# EAGLE library part LTC3626 (library SHC)
20V, 2.5A Synchronous Monolithic Step-Down Regulator with Current and Temperature Monitoring
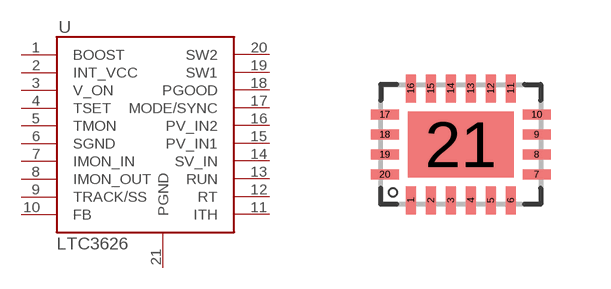
[diagram p47: symbol with the pads of LTC3626; footprint LTC3626]

Designator prefix -

## LTC3626  [LTC3626]
1  BOOST
2  INT_VCC
3  V_ON
4  TSET
5  TMON
6  SGND
7  IMON_IN
8  IMON_OUT
9  TRACK/SS
10  FB
11  ITH
12  RT
13  RUN
14  SV_IN
15  PV_IN1
16  PV_IN2
17  MODE/SYNC
18  PGOOD
19  SW1
20  SW2
21  PGND

## Footprint LTC3626 (pad centres in mm)
smd 0.25 x 0.7: 1 -1.25,-1.4; 2 -0.75,-1.4; 3 -0.25,-1.4; 4 0.25,-1.4; 5 0.75,-1.4; 6 1.25,-1.4; 11 1.25,1.4; 12 0.75,1.4; 13 0.25,1.4; 14 -0.25,1.4; 15 -0.75,1.4; 16 -1.25,1.4
smd 0.7 x 0.25: 7 1.9,-0.75; 8 1.9,-0.25; 9 1.9,0.25; 10 1.9,0.75; 17 -1.9,0.75; 18 -1.9,0.25; 19 -1.9,-0.25; 20 -1.9,-0.75
smd 2.65 x 1.65: 21 0,0